# Altium schematic symbol library PTN5150AHXMP.SchLib: 1 symbol
Pins are listed as number, name and electrical type; pins without a type are passive.

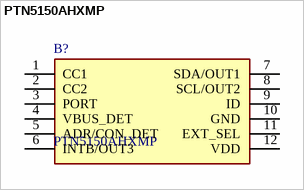
[diagram p0: symbol PTN5150AHXMP]

## PTN5150AHXMP
designator B?
USB Controller USB Interface 12-X2QFN (1.6x1.6), 2.7V ~ 5.5V , 100 uA , -40C ~ 85C; Manufacturer_Name: NXP; Geometry.Height: 0.4mm; Mouser Part Number: 771-PTN5150AHXMP; Mouser Price/Stock: https://www.mouser.co.uk/ProductDetail/NXP-Semiconductors/PTN5150AHXMP?qs=GIi83qBHgikdzCs4%252ByCwLg%3D%3D; Manufacturer_Part_Number: PTN5150AHXMP; Datasheet Link: https://www.nxp.com/products/PTN5150?linkline=Data%20Sheet#documentation
footprint PTN5150AHXMP
pins: 1 CC1, 2 CC2, 3 PORT, 4 VBUS_DET, 5 ADR/CON_DET, 6 INTB/OUT3, 7 SDA/OUT1, 8 SCL/OUT2, 9 ID, 10 GND, 11 EXT_SEL, 12 VDD